# Altium schematic symbol library Kalih.SchLib: 3 symbols
Pins are listed as number, name and electrical type; pins without a type are passive.

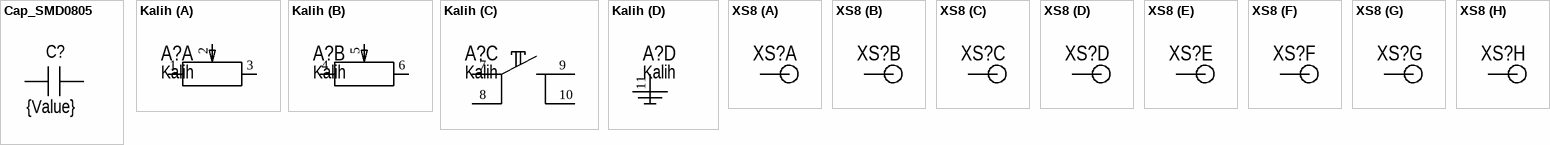
[diagram p0: symbols Cap_SMD0805 to XS8]

## Cap_SMD0805
designator C?  Ёмкость: {Value}
footprint cap_0805
pins: 1, 2

## Kalih
designator A?
footprint Kalih
part A pins: 1, 2, 3
part B pins: 4, 5, 6
part C pins: 7, 8, 9, 10
part D pins: 11

## XS8
designator XS?  (value not drawn)
footprint 8H_2.5mm
part A pins: 1
part B pins: 2
part C pins: 3
part D pins: 4
part E pins: 5
part F pins: 6
part G pins: 7
part H pins: 8